# Altium footprint library 2 Pin 100 mil Right Angle Header - Through Hole.PcbLib: 1 footprints
Each footprint in its own frame and in the unit in brackets; x right, y up, seen from the top. Pads: shape width x height; smd on the part's side, far side on the other; paste and mask are expansions set on the pad; w line width, h text height; cw(c..) or ccw(c..) is an arc to the next point about the centre after c.
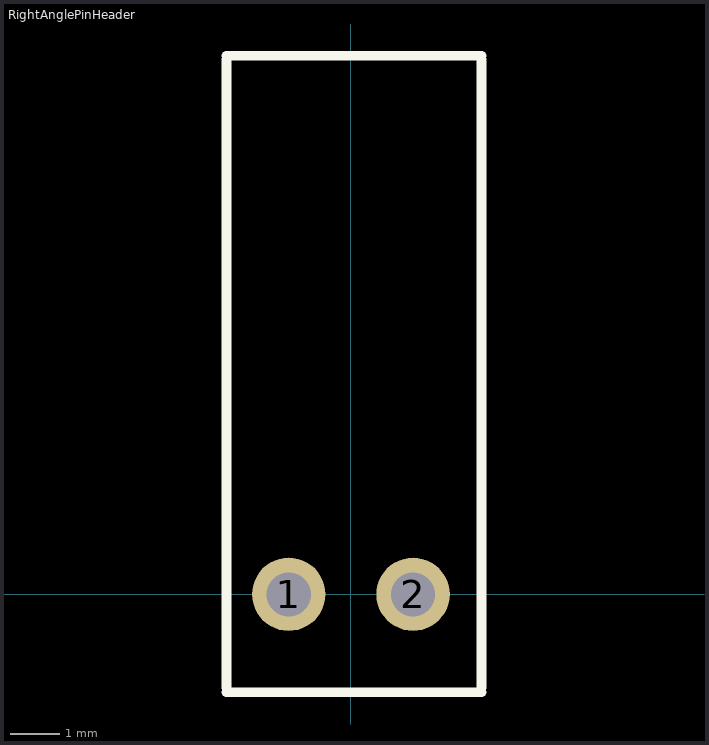
[diagram p0: the footprint, top view; thin cyan lines are the x and y axes]

## RightAnglePinHeader [mm]
pads (2):
  round 1.5 hole 0.9: 1(-1.27,0) 2(1.27,0)
Top Overlay:
  lines w0.2: -2.54,-2 2.667,-2 ; -2.54,-1.905 -2.54,10.922 ; -2.54,11 2.667,11 ; 2.667,-1.905 2.667,10.922